# EAGLE library part NFD-5641BS-ALT (library display-nfd)
Four Digit 0.56" CA Seven-Segment LED Display Futurlec part number: 7FR5641BS Created by RobG
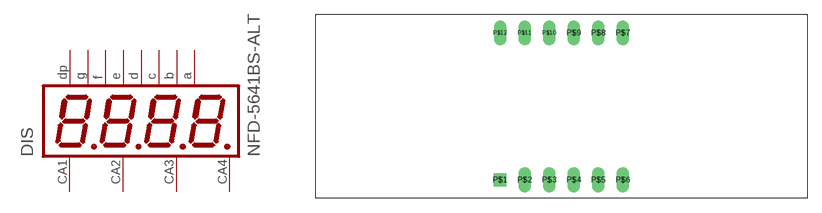
[diagram p3: symbol with the pads of NFD-5641; footprint NFD-5641]

Designator prefix DIS

## NFD-5641BS-ALT  [NFD-5641]
P$1  P$1
P$2  P$2
P$3  P$3
P$4  P$4
P$5  P$5
P$6  P$6
P$7  P$7
P$8  P$8
P$9  P$9
P$10  P$10
P$11  P$11
P$12  P$12

## Footprint NFD-5641 (pad centres in mm)
drill 0.8 square: P$1 -6.35,-7.62
drill 0.8 long: P$2 -3.81,-7.62; P$3 -1.27,-7.62; P$4 1.27,-7.62; P$5 3.81,-7.62; P$6 6.35,-7.62; P$7 6.35,7.62; P$8 3.81,7.62; P$9 1.27,7.62; P$10 -1.27,7.62; P$11 -3.81,7.62; P$12 -6.35,7.62